# Altium footprint library DIODE.PcbLib: 13 footprints
Each footprint in its own frame and in the unit in brackets; x right, y up, seen from the top. Pads: shape width x height; smd on the part's side, far side on the other; paste and mask are expansions set on the pad; w line width, h text height; cw(c..) or ccw(c..) is an arc to the next point about the centre after c.
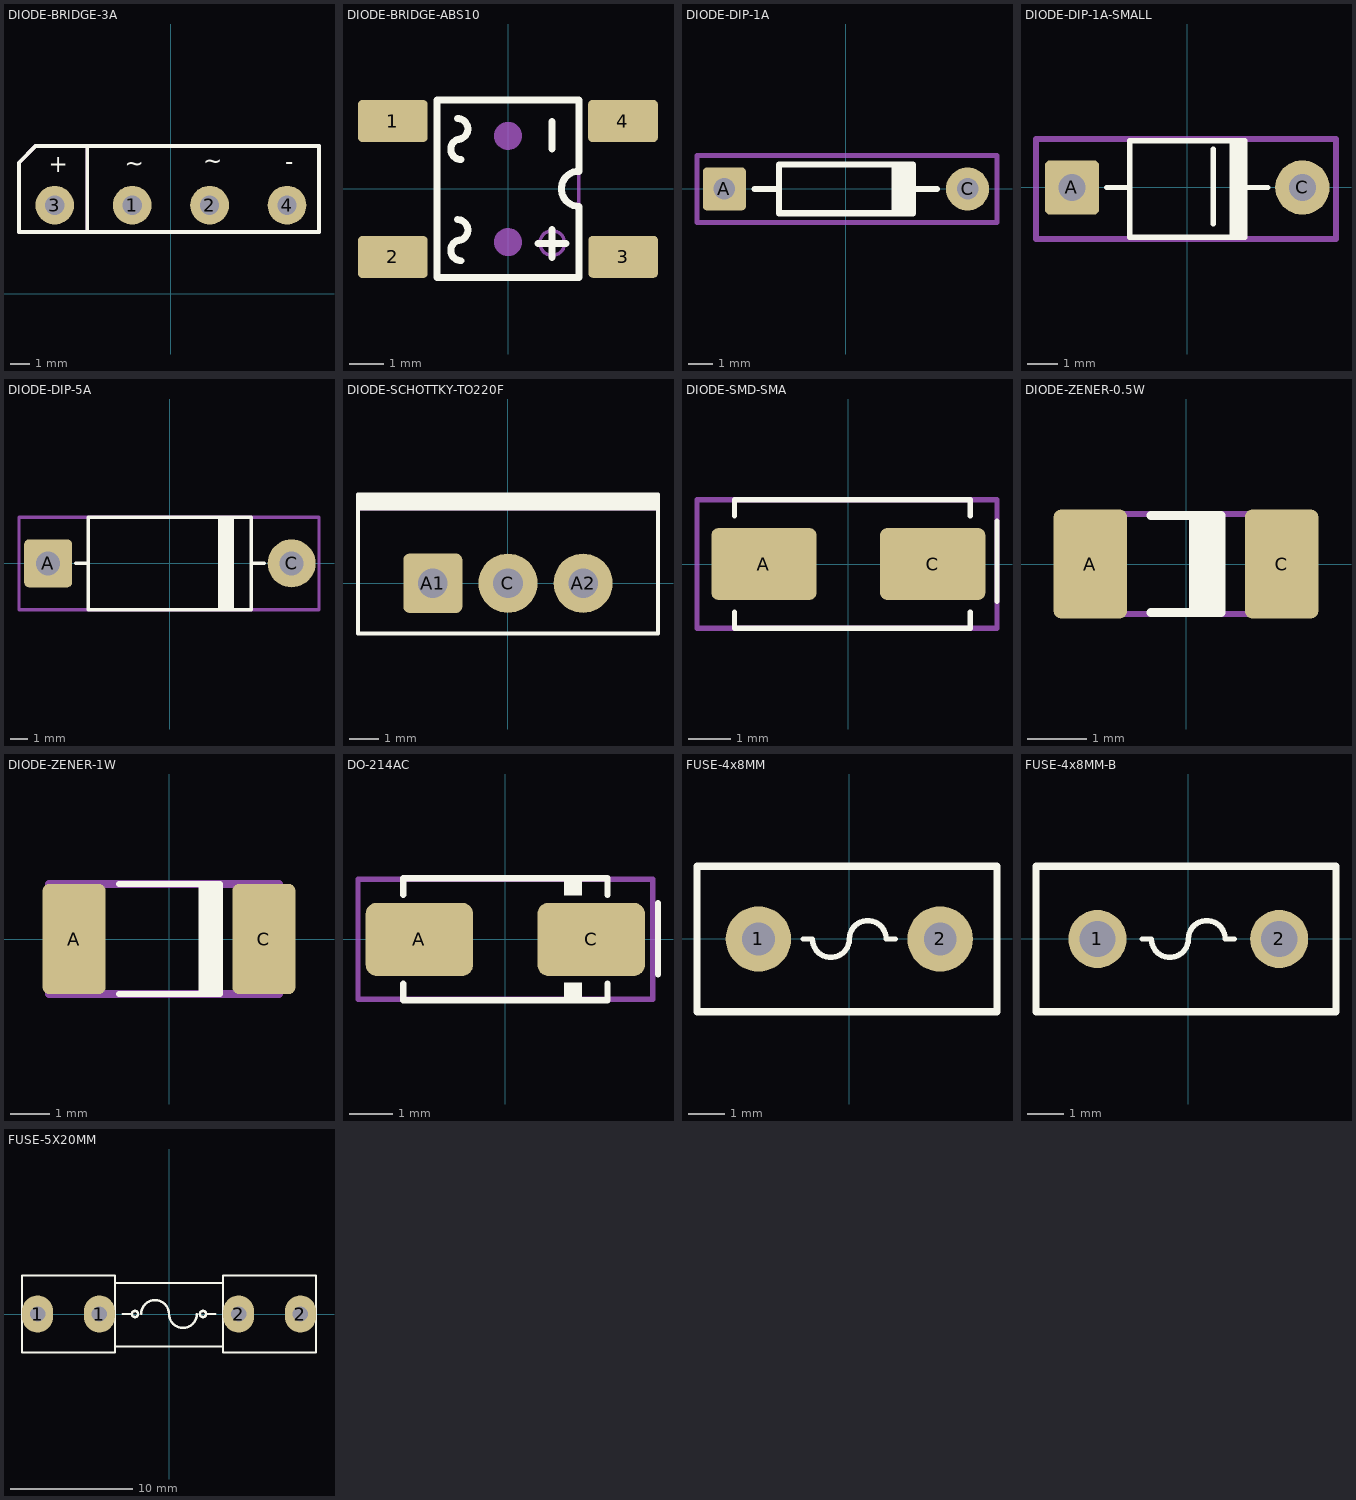
[diagram p0: the footprints below, top view; thin cyan lines are the x and y axes]

## DIODE-BRIDGE-3A [mm]
pads (4):
  round 2 hole 1: 1(-2,4.572) 2(2,4.572) 3(-6,4.572) 4(6,4.572)
Top Overlay:
  lines w0.2: -4.318,3.175 -4.318,7.62 ; -7.842,3.176 7.652,3.176 7.652,7.621 -6.984,7.621 -7.842,6.763 -7.842,3.176
  text "+" at -6.305,5.957 h1.5
  text "-" at 5.915,6.093 h1.5
  text "~" at -2.379,6.01 h1.5
  text "~" at 1.685,6.137 h1.5
Mechanical 13:
  lines w0.2: -4.318,3.175 -4.318,7.62 ; -7.842,3.176 7.652,3.176 7.652,7.621 -6.984,7.621 -7.842,6.763 -7.842,3.176
3D body "KBP307.step": height 12.99, standoff -13.89, extent -7.715,3.303 7.525,7.503

## DIODE-BRIDGE-ABS10 [mm]
pads (4):
  rrect20% 2x1.2 smd mask+0.075: 1(-3.302,1.95) 2(-3.302,-1.95) 3(3.302,-1.946) 4(3.298,1.95)
Top Overlay:
  lines w0.2: -1.452,-1.478 ccw(c-1.452,-1.178) -1.452,-0.878 ; -1.452,1.422 ccw(c-1.452,1.722) -1.452,2.022 ; -1.342,-2.058 cw(c-1.342,-1.758) -1.342,-1.458 ; -1.342,0.842 cw(c-1.342,1.142) -1.342,1.442 ; 0.858,-1.558 1.658,-1.558 ; 1.258,-1.958 1.258,-1.158 ; 1.258,1.142 1.258,1.942 ; -2.032,-2.544 -2.032,2.556 2.032,2.556 2.032,0.508 ccw(c2.032,0.006) 2.032,-0.496 2.032,-2.544 -2.032,-2.544
Mechanical 12:
  circle w0.6: c0,1.524 r0.1
  circle w0.6: c0,-1.524 r0.1
Mechanical 13:
  circle w0.1: c1.27,-1.549 r0.354
  lines w0.1: -2.032,-2.544 -2.032,2.556 2.032,2.556 2.032,-2.544 -2.032,-2.544
3D body "Gleichrichter ABS10.step": height 1.42, standoff -0.04, extent -3.06,-2.46 3.06,2.54

## DIODE-DIP-1A [mm]
height 2.54
pads (2):
  rrect20% 1.8x1.8 hole 0.9: A(-5.08,0)
  round 1.8 hole 0.9: C(5.08,0)
Top Overlay:
  region: 2.794,-1.016 2.032,-1.016 2.032,1.016 2.794,1.016
  lines w0.254: -3.81,0 -2.794,0 ; 2.032,-1.016 2.032,1.016 ; 2.794,0 3.81,0 ; -2.794,-1.016 -2.794,1.016 2.794,1.016 2.794,-1.016 -2.794,-1.016
Mechanical 13:
  lines w0.2: -6.223,-1.4 6.31,-1.4 6.31,1.397 -6.223,1.397 -6.223,-1.4
3D body "1N4007G.STEP": height 3.69, standoff -20.77, extent -5.474,-1.346 5.474,1.346

## DIODE-DIP-1A-SMALL [mm] "Diode 1A, W 100mil, L 350mil"
height 2.54
pads (2):
  rrect20% 1.8x1.8 hole 0.9: A(-3.81,0)
  round 1.8 hole 0.9: C(3.81,0)
Top Overlay:
  region: 1.905,1.549 1.397,1.549 1.397,-1.651 1.905,-1.651
  lines w0.178: -2.667,0 -1.905,0 ; 0.864,-1.194 0.864,1.27 ; 1.905,-0.533 1.905,0 ; 1.905,0.406 1.905,0 ; 2.667,0 1.905,0 ; 1.905,0 1.905,1.549 -1.905,1.549 -1.905,-1.651 1.905,-1.651 1.905,0
Mechanical 13:
  lines w0.2: -5,-1.7 4.92,-1.7 4.92,1.6 -5,1.6 -5,-1.7
3D body "User Library-DO-15-1.step": height 3.2, standoff -3.4, extent -4.21,-1.651 4.21,1.549

## DIODE-DIP-5A [mm]
pads (2):
  rrect20% 2.8x2.8 hole 1.4: A(-7.1,0)
  round 2.8 hole 1.4: C(7.1,0)
Top Overlay:
  rectangle: 2.794,-2.774 3.75,2.626
  lines w0.2: -5.5,0 -4.75,0 ; 4.75,0 5.5,0 ; -4.75,-2.7 4.75,-2.7 4.75,2.7 -4.75,2.7 -4.75,-2.7
Mechanical 13:
  lines w0.2: -8.8,-2.7 -8.8,2.7 8.7,2.7 8.7,-2.7 -8.8,-2.7
3D body "DO-201AD.stp": height 5.65, standoff -3.66, extent -7.73,-2.65 7.73,2.65

## DIODE-SCHOTTKY-TO220F [mm]
pads (3):
  rrect20% 2x2 hole 1 mask+0.075: A1(-2.54,0)
  round 2 hole 1 mask+0.075: A2(2.54,0) C(0,0)
Top Overlay:
  region: 5.071,3 -5.07,3 -5.07,2.464 5.071,2.464
  lines w0.12: -5.07,-1.7 5.071,-1.7 5.071,3 -5.07,3 -5.07,-1.7
Mechanical 13:
  rectangle: -5.07,2.456 5.071,3
  lines w0.1: -5.07,-1.7 5.071,-1.7 5.071,3 -5.07,3 -5.07,-1.7
3D body "TO-220F Full Pack.step": height 19.07, standoff -10.3, extent -5.07,-1.7 5.071,3

## DIODE-SMD-SMA [mm]
pads (2):
  rrect20% 2.5x1.7 smd: A(-2,0) C(2,0)
Top Overlay:
  lines w0.127: -2.699,-1.143 -2.699,-1.524 2.889,-1.524 2.889,-1.143 ; -2.699,1.143 -2.699,1.524 2.889,1.524 2.889,1.143 ; 3.524,-0.889 3.524,1.016
Mechanical 13:
  lines w0.127: -3.588,-1.524 3.524,-1.524 3.524,1.524 -3.588,1.524 -3.588,-1.524
3D body "SMA (DO-214AC).STEP": height 2.3, standoff 0, extent -2.6,-1.45 2.6,1.45

## DIODE-ZENER-0.5W [mm]
height 1.7
pads (2):
  rrect20% 1.25x1.85 smd mask+0.075: A(-1.625,0) C(1.625,0)
Top Overlay:
  region: 0.6,0.825 0.05,0.825 0.05,-0.825 0.6,-0.825
  lines w0.15: -0.6,-0.825 0.6,-0.825 0.6,0.825 -0.6,0.825
Mechanical 13:
  region: 1.85,0.85 1.27,0.85 1.27,-0.85 1.85,-0.85
  lines w0.1: -1.85,-0.85 -1.85,0.85 1.85,0.85 1.85,-0.85 -1.85,-0.85
3D body "DO-213AA-RED.stp": height 1.6, standoff 0, extent -1.825,-0.786 1.875,0.786

## DIODE-ZENER-1W [mm]
height 1.7
pads (2):
  rrect20% 1.6x2.8 smd mask+0.075: A(-2.413,0) C(2.413,0)
Top Overlay:
  region: 1.299,1.397 0.749,1.397 0.749,-1.397 1.299,-1.397
  lines w0.15: -1.27,-1.397 1.299,-1.397 1.299,1.397 -1.27,1.397
Mechanical 13:
  lines w0.2: -3.048,-1.397 2.794,-1.397 2.794,1.397 -3.048,1.397 -3.048,-1.397
3D body "DO-213AB-RED.stp": height 2.59, standoff 0, extent -2.549,-1.294 2.651,1.294

## DO-214AC [mm] "Diode, Molded Body; 5.23 mm L X 2.62 mm W X 2.95 mm H body"
height 2.95
pads (2):
  rrect29% 2.5x1.7 smd: A(-2,0) C(2,0)
Top Overlay:
  region: 1.778,1.033 1.778,1.439 1.372,1.439 1.372,1.033
  region: 1.778,-1.422 1.778,-1.016 1.372,-1.016 1.372,-1.422
  lines w0.15: -2.38,-1.035 -2.38,-1.42 2.38,-1.42 2.38,-1.035 ; -2.38,1.035 -2.38,1.42 2.38,1.42 2.38,1.035 ; 3.556,-0.813 3.556,0.838
Mechanical 13:
  lines w0.127: -3.429,-1.397 3.429,-1.397 3.429,1.397 -3.429,1.397 -3.429,-1.397
  text ".Designator" at 2.413,0.254 h1
Mechanical 15:
  text ".Comment" at 2.413,0.254 h1
3D body "DO-214AC.STEP": height 2.95, standoff 0, extent -2.615,-1.31 2.615,1.31

## FUSE-4x8MM [mm]
height 5.08
pads (2):
  round 1.8 hole 0.9: 1(-2.5,0) 2(2.5,0)
Top Overlay:
  lines w0.15: -1.27,0 -1.016,0 ccw(c-0.508,0) 0,0 cw(c0.508,0) 1.016,0 1.27,0
  lines w0.2: -4.191,-2 4.064,-2 4.064,2 -4.191,2 -4.191,-2
3D body "MKT Capacitor Red.step": height 6.5, standoff -2, extent -3.75,-1.225 3.75,1.225

## FUSE-4x8MM-B [mm]
height 5.08
pads (2):
  round 1.6 hole 1: 1(-2.5,0) 2(2.5,0)
Top Overlay:
  lines w0.15: -1.27,0 -1.016,0 ccw(c-0.508,0) 0,0 cw(c0.508,0) 1.016,0 1.27,0
  lines w0.2: -4.191,-2 -4.191,2 4.064,2 4.064,-2 -4.191,-2
3D body: height 8, standoff 0.5, extent -4.2,-2.1 4.114,2
3D body: height 2, standoff -3, extent 2.31,-0.191 2.691,0.191
3D body: height 2, standoff -3, extent -2.691,-0.191 -2.31,0.191
3D body: height 2.45, standoff 0.01, extent -3.238,1.333 -1.841,1.714
3D body: height 2.45, standoff 0.01, extent -3.159,-1.714 -1.762,-1.333
3D body: height 2.45, standoff 0.01, extent 1.841,-1.714 3.238,-1.333
3D body: height 2.45, standoff 0.01, extent 1.762,1.333 3.159,1.714

## FUSE-5X20MM [mil] "De Fuse"
height 314.96
pads (4):
  oval 100x120 hole 50: 1(-425,0) 1(-225,0) 2(225,0) 2(425,0)
Top Overlay:
  circle w7.87: c110,0 r10
  circle w7.87: c-110,0 r10
  lines w7: -175,-105 175,-105 ; -175,100 175,100 ; -475,-125 -175,-125 -175,125 -475,125 -475,-125 ; 175,-125 175,125 475,125 475,-125 175,-125
  lines w7.87: -150,0 -120,0 ; -90,0 cw(c-45,0) 0,0 ccw(c45,0) 90,0 ; 120,0 150,0
3D body "SW3dPS-Fuse Leg_2009.STEP": height 377.88, standoff -129.94, extent -448,-117 -208,126.71
3D body "SW3dPS-Fuse Small 1A.STEP": height 370.39, standoff 169.61, extent -384.8,-98 390.8,102.79
3D body "SW3dPS-Fuse Leg_2009.STEP": height 377.88, standoff -129.94, extent 219,-116.71 459,127